# Altium footprint library MEG44-45 DIN box outline.PcbLib: 1 footprints
Each footprint in its own frame and in the unit in brackets; x right, y up, seen from the top. Pads: shape width x height; smd on the part's side, far side on the other; paste and mask are expansions set on the pad; w line width, h text height; cw(c..) or ccw(c..) is an arc to the next point about the centre after c.
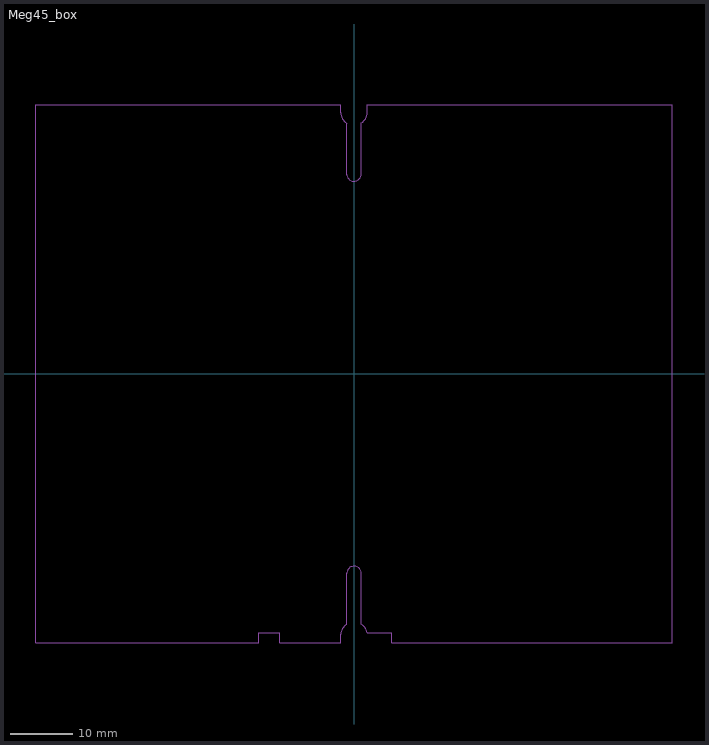
[diagram p0: the footprint, top view; thin cyan lines are the x and y axes]

## Meg45_box [mm]
Mechanical 1:
  lines w0.1: -51.1,-43.2 -51.1,43.2 -2.15,43.2 -2.15,41.9 ccw(c-0.111,41.975) -1.198,40.249 -1.198,31.95 ccw(c-0.004,32.133) 1.2,32.025 1.2,40.275 ccw(c0.113,42.001) 2.152,41.926 2.152,43.2 51.1,43.2 51.1,-43.2 6.1,-43.2 6.1,-41.6 2.109,-41.6 ccw(c0.033,-42.017) 1.2,-40.25 1.2,-31.975 ccw(c0.004,-32.13) -1.2,-32.05 -1.2,-40.286 ccw(c-0.07,-42.043) -2.15,-41.85 -2.15,-43.2 -11.9,-43.2 -11.9,-41.6 -15.3,-41.6 -15.3,-43.2 -51.1,-43.2